# Altium footprint library Boardofall.PcbLib: 29 footprints (part 1 of 2)
Each footprint in its own frame and in the unit in brackets; x right, y up, seen from the top. Pads: shape width x height; smd on the part's side, far side on the other; paste and mask are expansions set on the pad; w line width, h text height; cw(c..) or ccw(c..) is an arc to the next point about the centre after c.
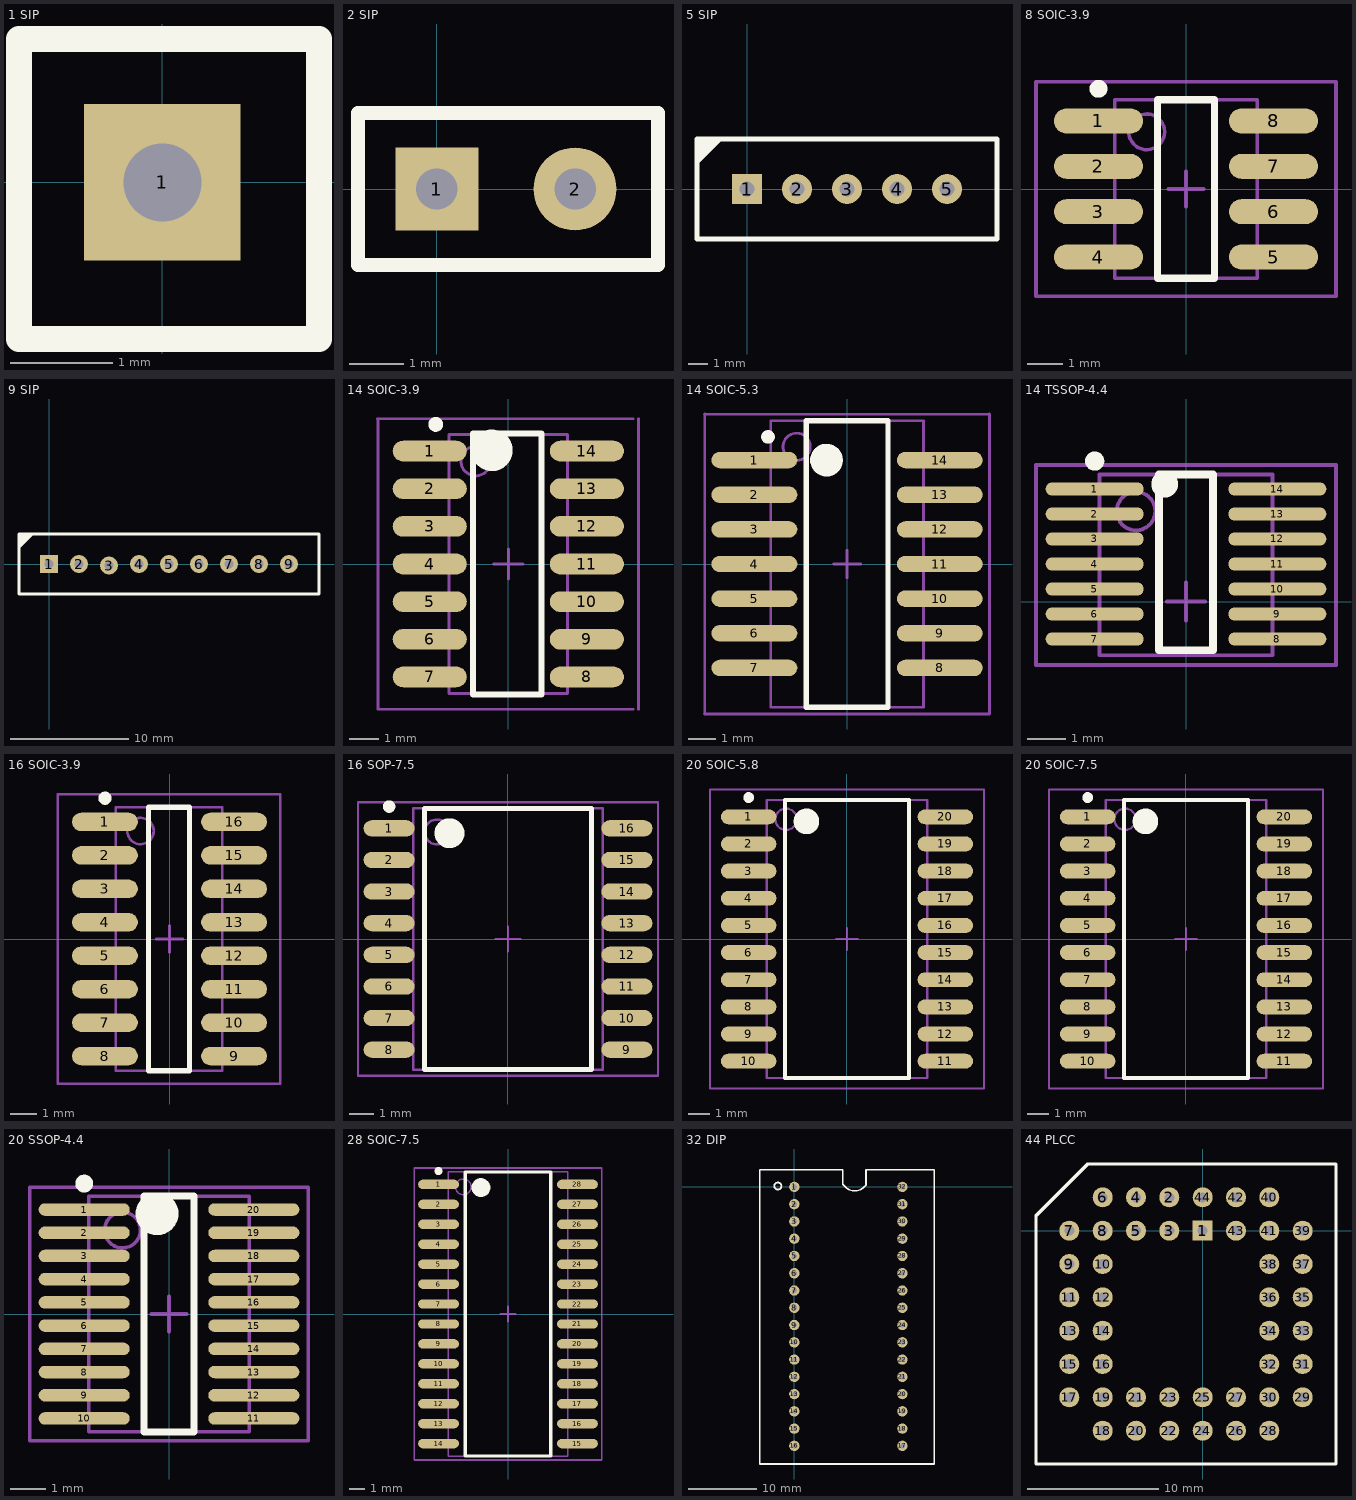
[diagram p0: the footprints below, top view; thin cyan lines are the x and y axes]

## 1 SIP [mil]
pads (1):
  rect 60x60 hole 30: 1(0,0)
Top Overlay:
  lines w10: -55,-60 -55,0 -55,55 60,55 60,-60 -55,-60

## 2 SIP [mil]
pads (2):
  rect 60x60 hole 30: 1(0,0)
  round 60 hole 30: 2(100,0)
Top Overlay:
  lines w10: -57,-55 -57,55 160,55 160,-55 -57,-55

## 5 SIP [mil]
pads (5):
  rect 60x60 hole 30: 1(0,0)
  round 60 hole 30: 2(100,0) 3(200,0) 4(300,0) 5(400,0)
Top Overlay:
  lines w10: -100,55 -55,100 ; -100,85 -85,100 ; -95,65 -95,70 -65,100 ; -95,75 -75,95 ; -95,80 -80,95 ; -100,-100 500,-100 500,100 -100,100 -100,-100

## 8 SOIC-3.9 [mm]
pads (8):
  oval 2.5x0.7 smd: 1(-2.45,1.905) 2(-2.45,0.635) 3(-2.45,-0.635) 4(-2.45,-1.905) 5(2.45,-1.905) 6(2.45,-0.635) 7(2.45,0.635) 8(2.45,1.905)
Top Overlay:
  circle w0.25: c-2.45,2.805 r0.125
  lines w0.2: -0.8,-2.5 0.8,-2.5 0.8,2.5 -0.8,2.5 -0.8,-2.5
Mechanical 13:
  circle w0.1: c-1.1,1.6 r0.5
  lines w0.1: -2,-2.5 2,-2.5 2,2.5 -2,2.5 -2,-2.5
Mechanical 15:
  lines w0.1: -0.5,0 0.5,0 ; 0,-0.5 0,0.5 ; -4.2,-3 4.2,-3 4.2,3 -4.2,3 -4.2,-3

## 9 SIP [mil]
pads (9):
  rect 60x60 hole 30: 1(0,0)
  round 60 hole 30: 2(100,0) 3(200,-5) 4(300,0) 5(400,0) 6(500,0) 7(600,0) 8(700,0) 9(800,0)
Top Overlay:
  lines w10: -100,55 -55,100 ; -100,85 -85,100 ; -95,65 -95,70 -65,100 ; -95,75 -75,95 ; -95,80 -80,95 ; -100,-100 -100,100 900,100 900,-100 -100,-100

## 14 SOIC-3.9 [mm]
pads (14):
  oval 2.5x0.7 smd: 1(-2.65,3.81) 2(-2.65,2.54) 3(-2.65,1.27) 4(-2.65,0) 5(-2.65,-1.27) 6(-2.65,-2.54) 7(-2.65,-3.81) 8(2.65,-3.81) 9(2.65,-2.54) 10(2.65,-1.27) 11(2.65,0) 12(2.65,1.27) 13(2.65,2.54) 14(2.65,3.81)
Top Overlay:
  circle w0.7: c-0.551,3.835 r0.35
  circle w0.25: c-2.45,4.71 r0.125
  lines w0.2: -1.194,-4.4 1.118,-4.4 1.118,4.4 -1.194,4.4 -1.194,-4.4
Mechanical 13:
  circle w0.1: c-1.1,3.475 r0.5
  lines w0.1: -2,-4.375 2,-4.375 2,4.375 -2,4.375 -2,-4.375
Mechanical 15:
  lines w0.1: -4.42,4.9 4.2,4.9 ; -4.4,-4.9 -4.4,4.9 ; -4.394,-4.9 4.2,-4.9 ; -0.5,0 0.5,0 ; 0,-0.5 0,0.5 ; 4.4,-4.9 4.4,4.9

## 14 SOIC-5.3 [mm]
pads (14):
  oval 3.15x0.6 smd: 1(-3.4,3.81) 2(-3.4,2.54) 3(-3.4,1.27) 4(-3.4,0) 5(-3.4,-1.27) 6(-3.4,-2.54) 7(-3.4,-3.81) 8(3.4,-3.81) 9(3.4,-2.54) 10(3.4,-1.27) 11(3.4,0) 12(3.4,1.27) 13(3.4,2.54) 14(3.4,3.81)
Top Overlay:
  circle w0.25: c-2.9,4.66 r0.125
  circle w0.6: c-0.757,3.81 r0.3
  lines w0.2: -1.499,-5.25 -1.499,5.25 1.499,5.25 1.499,-5.25 -1.499,-5.25
Mechanical 13:
  circle w0.1: c-1.85,4.3 r0.5
  lines w0.1: -2.8,-5.25 -2.8,5.25 2.8,5.25 2.8,-5.25 -2.8,-5.25
Mechanical 15:
  lines w0.1: -5.233,-5.5 5.207,-5.5 ; -5.232,5.486 5.207,5.501 ; -5.225,-5.5 -5.225,5.5 ; -0.5,0 0.5,0 ; 0,-0.5 0,0.5 ; 5.225,-5.5 5.225,5.5

## 14 TSSOP-4.4 [mm]
pads (14):
  oval 2.55x0.35 smd: 1(-2.375,2.925) 2(-2.375,2.275) 3(-2.375,1.625) 4(-2.375,0.975) 5(-2.375,0.325) 6(-2.375,-0.325) 7(-2.375,-0.975) 8(2.375,-0.975) 9(2.375,-0.325) 10(2.375,0.325) 11(2.375,0.975) 12(2.375,1.625) 13(2.375,2.275) 14(2.375,2.925)
Top Overlay:
  circle w0.6: c-0.554,3.048 r0.046
  circle w0.25: c-2.375,3.65 r0.125
  lines w0.2: -0.7,-1.27 0.7,-1.27 0.7,3.3 -0.7,3.3 -0.7,-1.27
Mechanical 13:
  circle w0.1: c-1.3,2.35 r0.5
  lines w0.1: -2.25,-1.397 2.25,-1.397 2.25,3.3 -2.25,3.3 -2.25,-1.397
Mechanical 15:
  lines w0.1: -0.5,0 0.5,0 ; 0,-0.5 0,0.5 ; -3.9,-1.651 3.9,-1.651 3.9,3.55 -3.9,3.55 -3.9,-1.651
3D body: height 1.2, standoff 0.05, extent -2.25,-1.397 2.25,3.3

## 16 SOIC-3.9 [mm]
pads (16):
  oval 2.5x0.7 smd: 1(-2.45,4.445) 2(-2.45,3.175) 3(-2.45,1.905) 4(-2.45,0.635) 5(-2.45,-0.635) 6(-2.45,-1.905) 7(-2.45,-3.175) 8(-2.45,-4.445) 9(2.45,-4.445) 10(2.45,-3.175) 11(2.45,-1.905) 12(2.45,-0.635) 13(2.45,0.635) 14(2.45,1.905) 15(2.45,3.175) 16(2.45,4.445)
Top Overlay:
  circle w0.25: c-2.45,5.345 r0.125
  lines w0.2: -0.8,-5 0.762,-5 0.762,5 -0.8,5 -0.8,-5
Mechanical 13:
  circle w0.1: c-1.1,4.1 r0.5
  lines w0.1: -2.038,-5 2,-5 2,5 -2.038,5 -2.038,-5
Mechanical 15:
  lines w0.1: -0.5,0 0.5,0 ; 0,-0.5 0,0.5 ; -4.238,-5.5 4.2,-5.5 4.2,5.5 -4.238,5.5 -4.238,-5.5

## 16 SOP-7.5 [mm]
pads (16):
  oval 2.05x0.65 smd: 1(-4.775,4.445) 2(-4.775,3.175) 3(-4.775,1.905) 4(-4.775,0.635) 5(-4.775,-0.635) 6(-4.775,-1.905) 7(-4.775,-3.175) 8(-4.775,-4.445) 9(4.775,-4.445) 10(4.775,-3.175) 11(4.775,-1.905) 12(4.775,-0.635) 13(4.775,0.635) 14(4.775,1.905) 15(4.775,3.175) 16(4.775,4.445)
Top Overlay:
  circle w0.25: c-4.775,5.32 r0.125
  circle w0.6: c-2.35,4.25 r0.3
  lines w0.2: -3.35,-5.25 -3.35,5.25 3.35,5.25 3.35,-5.25 -3.35,-5.25
Mechanical 13:
  circle w0.1: c-2.85,4.3 r0.5
  lines w0.1: -3.8,-5.25 -3.8,5.25 3.8,5.25 3.8,-5.25 -3.8,-5.25
Mechanical 15:
  lines w0.1: -0.5,0 0.5,0 ; 0,-0.5 0,0.5 ; -6.025,-5.5 -6.025,5.5 6.025,5.5 6.025,-5.5 -6.025,-5.5
3D body: height 2.65, standoff 0.3, extent -3.8,-5.25 3.8,5.25

## 20 SOIC-5.8 [mm]
pads (20):
  oval 2.6x0.7 smd: 1(-4.6,5.715) 2(-4.6,4.445) 3(-4.6,3.175) 4(-4.6,1.905) 5(-4.6,0.635) 6(-4.6,-0.635) 7(-4.6,-1.905) 8(-4.6,-3.175) 9(-4.6,-4.445) 10(-4.6,-5.715) 11(4.6,-5.715) 12(4.6,-4.445) 13(4.6,-3.175) 14(4.6,-1.905) 15(4.6,-0.635) 16(4.6,0.635) 17(4.6,1.905) 18(4.6,3.175) 19(4.6,4.445) 20(4.6,5.715)
Top Overlay:
  circle w0.25: c-4.6,6.615 r0.125
  circle w0.6: c-1.9,5.5 r0.3
  lines w0.2: -2.9,-6.5 -2.9,6.5 2.9,6.5 2.9,-6.5 -2.9,-6.5
Mechanical 13:
  circle w0.1: c-2.85,5.6 r0.5
  lines w0.1: -3.75,-6.5 -3.75,6.5 3.75,6.5 3.75,-6.5 -3.75,-6.5
Mechanical 15:
  lines w0.1: -0.5,0 0.5,0 ; 0,-0.5 0,0.5 ; -6.4,-7 -6.4,7 6.4,7 6.4,-7 -6.4,-7

## 20 SOIC-7.5 [mm]
pads (20):
  oval 2.6x0.7 smd: 1(-4.6,5.715) 2(-4.6,4.445) 3(-4.6,3.175) 4(-4.6,1.905) 5(-4.6,0.635) 6(-4.6,-0.635) 7(-4.6,-1.905) 8(-4.6,-3.175) 9(-4.6,-4.445) 10(-4.6,-5.715) 11(4.6,-5.715) 12(4.6,-4.445) 13(4.6,-3.175) 14(4.6,-1.905) 15(4.6,-0.635) 16(4.6,0.635) 17(4.6,1.905) 18(4.6,3.175) 19(4.6,4.445) 20(4.6,5.715)
Top Overlay:
  circle w0.25: c-4.6,6.615 r0.125
  circle w0.6: c-1.9,5.5 r0.3
  lines w0.2: -2.9,-6.5 -2.9,6.5 2.9,6.5 2.9,-6.5 -2.9,-6.5
Mechanical 13:
  circle w0.1: c-2.85,5.6 r0.5
  lines w0.1: -3.75,-6.5 -3.75,6.5 3.75,6.5 3.75,-6.5 -3.75,-6.5
Mechanical 15:
  lines w0.1: -0.5,0 0.5,0 ; 0,-0.5 0,0.5 ; -6.4,-7 -6.4,7 6.4,7 6.4,-7 -6.4,-7
3D body: height 2.65, standoff 0, extent -3.75,-6.5 3.75,6.5

## 20 SSOP-4.4 [mm]
pads (20):
  oval 2.55x0.35 smd: 1(-2.375,2.925) 2(-2.375,2.275) 3(-2.375,1.625) 4(-2.375,0.975) 5(-2.375,0.325) 6(-2.375,-0.325) 7(-2.375,-0.975) 8(-2.375,-1.625) 9(-2.375,-2.275) 10(-2.375,-2.925) 11(2.375,-2.925) 12(2.375,-2.275) 13(2.375,-1.625) 14(2.375,-0.975) 15(2.375,-0.325) 16(2.375,0.325) 17(2.375,0.975) 18(2.375,1.625) 19(2.375,2.275) 20(2.375,2.925)
Top Overlay:
  circle w0.25: c-2.375,3.65 r0.125
  circle w0.6: c-0.335,2.808 r0.3
  lines w0.2: -0.7,-3.3 -0.7,3.3 0.7,3.3 0.7,-3.3 -0.7,-3.3
Mechanical 13:
  circle w0.1: c-1.3,2.35 r0.5
  lines w0.1: -2.25,-3.3 -2.25,3.3 2.25,3.3 2.25,-3.3 -2.25,-3.3
Mechanical 15:
  lines w0.1: -0.5,0 0.5,0 ; 0,-0.5 0,0.5 ; -3.9,-3.55 -3.9,3.55 3.9,3.55 3.9,-3.55 -3.9,-3.55
3D body: height 1.2, standoff 0.05, extent -2.25,-3.3 2.25,3.3

## 28 SOIC-7.5 [mm]
pads (28):
  oval 2.6x0.6 smd: 1(-4.425,8.255) 2(-4.425,6.985) 3(-4.425,5.715) 4(-4.425,4.445) 5(-4.425,3.175) 6(-4.425,1.905) 7(-4.425,0.635) 8(-4.425,-0.635) 9(-4.425,-1.905) 10(-4.425,-3.175) 11(-4.425,-4.445) 12(-4.425,-5.715) 13(-4.425,-6.985) 14(-4.425,-8.255) 15(4.425,-8.255) 16(4.425,-6.985) 17(4.425,-5.715) 18(4.425,-4.445) 19(4.425,-3.175) 20(4.425,-1.905) 21(4.425,-0.635) 22(4.425,0.635) 23(4.425,1.905) 24(4.425,3.175) 25(4.425,4.445) 26(4.425,5.715) 27(4.425,6.985) 28(4.425,8.255)
Top Overlay:
  circle w0.25: c-4.425,9.105 r0.125
  circle w0.6: c-1.725,8.05 r0.3
  lines w0.2: -2.725,-9.05 -2.725,9.05 2.725,9.05 2.725,-9.05 -2.725,-9.05
Mechanical 13:
  circle w0.1: c-2.85,8.1 r0.5
  lines w0.1: -3.8,-9.05 -3.8,9.05 3.8,9.05 3.8,-9.05 -3.8,-9.05
Mechanical 15:
  lines w0.1: -0.5,0 0.5,0 ; 0,-0.5 0,0.5 ; -5.975,-9.3 -5.975,9.3 5.975,9.3 5.975,-9.3 -5.975,-9.3
3D body: height 2.65, standoff 0.23, extent -3.8,-9.05 3.8,9.05

## 32 DIP [mil]
pads (32):
  round 60 hole 30: 1(0,0) 2(0,-100) 3(0,-200) 4(0,-300) 5(0,-400) 6(0,-500) 7(0,-600) 8(0,-700) 9(0,-800) 10(0,-900) 11(0,-1000) 12(0,-1100) 13(0,-1200) 14(0,-1300) 15(0,-1400) 16(0,-1500) 17(625.98,-1500) 18(625.98,-1400) 19(625.98,-1300) 20(625.98,-1200) 21(625.98,-1100) 22(625.98,-1000) 23(625.98,-900) 24(625.98,-800) 25(625.98,-700) 26(625.98,-600) 27(625.98,-500) 28(625.98,-400) 29(625.98,-300) 30(625.98,-200) 31(625.98,-100) 32(625.98,0)
Top Overlay:
  circle w10: c-95.62,5 r20.62
  lines w10: -200,-1605 810,-1605 810,100 415,100 415,10 405,0 cw(c350,55) 295,0 280,15 280,100 -200,100 -200,-1605

## 44 PLCC [mil]
pads (44):
  rect 60x60 hole 30: 1(0,0)
  round 60 hole 30: 2(-100,100) 3(-100,0) 4(-200,100) 5(-200,0) 6(-300,100) 7(-400,0) 8(-300,0) 9(-400,-100) 10(-300,-100) 11(-400,-200) 12(-300,-200) 13(-400,-300) 14(-300,-300) 15(-400,-400) 16(-300,-400) 17(-400,-500) 18(-300,-600) 19(-300,-500) 20(-200,-600) 21(-200,-500) 22(-100,-600) 23(-100,-500) 24(0,-600) 25(0,-500) 26(100,-600) 27(100,-500) 28(200,-600) 29(300,-500) 30(200,-500) 31(300,-400) 32(200,-400) 33(300,-300) 34(200,-300) 35(300,-200) 36(200,-200) 37(300,-100) 38(200,-100) 39(300,0) 40(200,100) 41(200,0) 42(100,100) 43(100,0) 44(0,100)
Top Overlay:
  lines w10: -500,-700 -500,45 -345,200 400,200 400,-700 -500,-700